# Altium schematic symbol library Serial.SchLib: 2 symbols
Pins are listed as number, name and electrical type; pins without a type are passive.

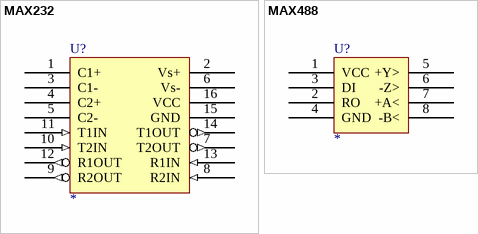
[diagram p0: symbols MAX232 to MAX488]

## MAX232
designator U?
DUAL EIA-232 DRIVER/RECEIVER
pins: 1 C1+, 2 Vs+, 3 C1-, 4 C2+, 5 C2-, 6 Vs-, 7 T2OUT (out), 8 R2IN (in), 9 R2OUT (out), 10 T2IN (in), 11 T1IN (in), 12 R1OUT (out), 13 R1IN (in), 14 T1OUT (out), 15 GND (power), 16 VCC (power)
1 alternate drawing of the same symbol

## MAX488
designator U?
footprint 8SOIC150
footprint 8DIP300
pins: 1 VCC, 2 RO, 3 DI, 4 GND, 5 +Y>, 6 -Z>, 7 +A<, 8 -B<